# Altium footprint library LCD5110.PcbLib: 1 footprints
Each footprint in its own frame and in the unit in brackets; x right, y up, seen from the top. Pads: shape width x height; smd on the part's side, far side on the other; paste and mask are expansions set on the pad; w line width, h text height; cw(c..) or ccw(c..) is an arc to the next point about the centre after c.
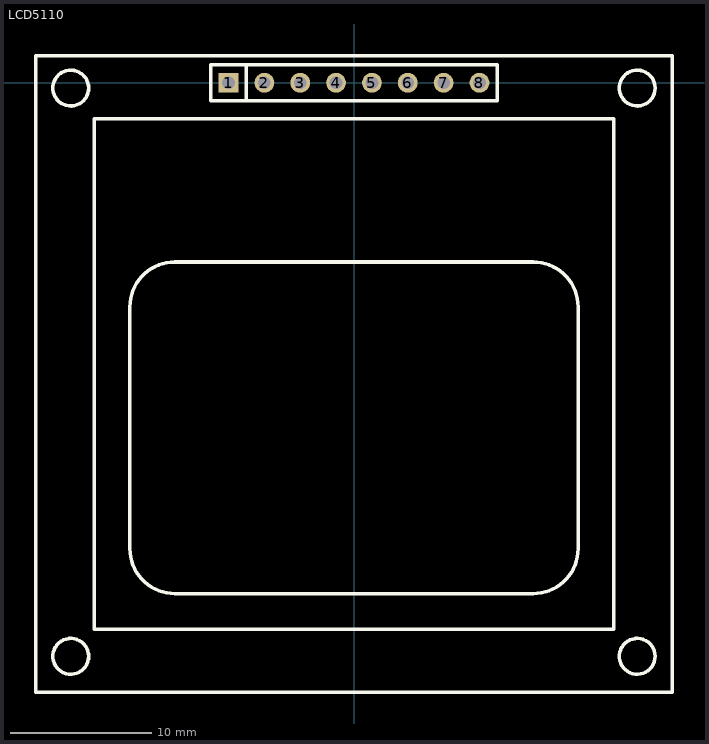
[diagram p0: the footprint, top view; thin cyan lines are the x and y axes]

## LCD5110 [mm]
height 10.16
pads (8):
  rect 1.4x1.4 hole 0.9: 1(-8.89,0)
  round 1.4 hole 0.9: 2(-6.35,0) 3(-3.81,0) 4(-1.27,0) 5(1.27,0) 6(3.81,0) 7(6.35,0) 8(8.89,0)
Top Overlay:
  circle w0.254: c20.066,-40.64 r1.27
  circle w0.254: c-20.066,-40.64 r1.27
  circle w0.254: c20.066,-0.381 r1.27
  circle w0.254: c-20.066,-0.381 r1.27
  lines w0.254: -7.62,-1.27 -7.62,1.27 ; -22.543,-43.18 -22.543,1.905 22.543,1.905 22.543,-43.18 -22.543,-43.18 ; -18.415,-38.735 -18.415,-2.54 18.415,-2.54 18.415,-38.735 -18.415,-38.735 ; -15.875,-33.02 ccw(c-12.7,-33.02) -12.7,-36.195 12.7,-36.195 ccw(c12.7,-33.02) 15.875,-33.02 15.875,-15.875 ccw(c12.7,-15.875) 12.7,-12.7 -12.7,-12.7 ccw(c-12.7,-15.875) -15.875,-15.875 -15.875,-33.02 ; -10.16,-1.27 -10.16,1.27 10.16,1.27 10.16,-1.27 -10.16,-1.27